# EAGLE library part THAT5171 (library Egna komponenter)
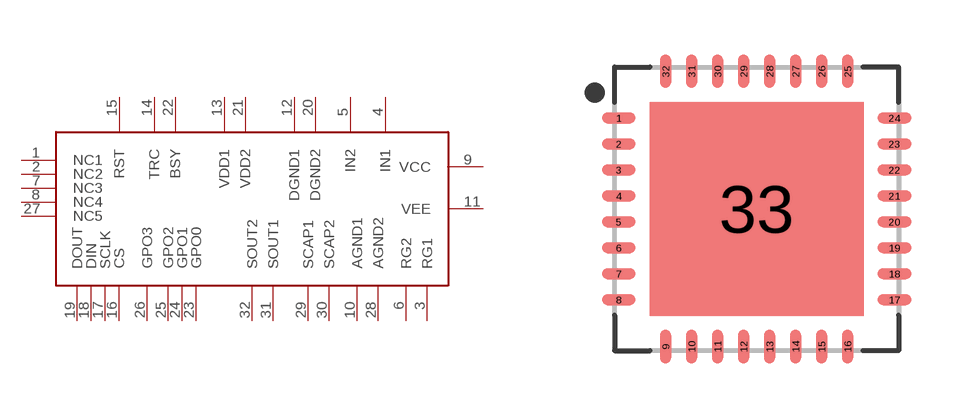
[diagram p14: symbol with the pads of QFN65P700X700X95-33T535; footprint QFN65P700X700X95-33T535]

Designator prefix -

## THAT5171THAT5171  [QFN65P700X700X95-33T535]
1  NC1
2  NC2
3  RG1
4  IN1
5  IN2
6  RG2
7  NC3
8  NC4
9  VCC
10  AGND1
11  VEE
12  DGND1
13  VDD1
14  TRC
15  RST
16  CS
17  SCLK
18  DIN
19  DOUT
20  DGND2
21  VDD2
22  BSY
23  GPO0
24  GPO1
25  GPO2
26  GPO3
27  NC5
28  AGND2
29  SCAP1
30  SCAP2
31  SOUT1
32  SOUT2

## Footprint QFN65P700X700X95-33T535 (pad centres in mm)
32-QFN, 0.65 mm pitch, 7.00 X 7.00 X 0.95 mm body, 5.35 X 5.35 mm thermal pad 32-pin QFN package with 0.65 mm pitch with body size 7.00 X 7.00 X 0.95 mm and thermal pad size 5.35 X 5.35 mm
smd 0.838 x 0.27: 1 -3.446,2.275; 2 -3.446,1.625; 3 -3.446,0.975; 4 -3.446,0.325; 5 -3.446,-0.325; 6 -3.446,-0.975; 7 -3.446,-1.625; 8 -3.446,-2.275; 17 3.446,-2.275; 18 3.446,-1.625; 19 3.446,-0.975; 20 3.446,-0.325; 21 3.446,0.325; 22 3.446,0.975; 23 3.446,1.625; 24 3.446,2.275
smd 0.27 x 0.838: 9 -2.275,-3.446; 10 -1.625,-3.446; 11 -0.975,-3.446; 12 -0.325,-3.446; 13 0.325,-3.446; 14 0.975,-3.446; 15 1.625,-3.446; 16 2.275,-3.446; 25 2.275,3.446; 26 1.625,3.446; 27 0.975,3.446; 28 0.325,3.446; 29 -0.325,3.446; 30 -0.975,3.446; 31 -1.625,3.446; 32 -2.275,3.446
smd 5.35 x 5.35: 33 0,0